# Altium footprint library PCB1.PcbLib: 28 footprints (part 1 of 2)
Each footprint in its own frame and in the unit in brackets; x right, y up, seen from the top. Pads: shape width x height; smd on the part's side, far side on the other; paste and mask are expansions set on the pad; w line width, h text height; cw(c..) or ccw(c..) is an arc to the next point about the centre after c.
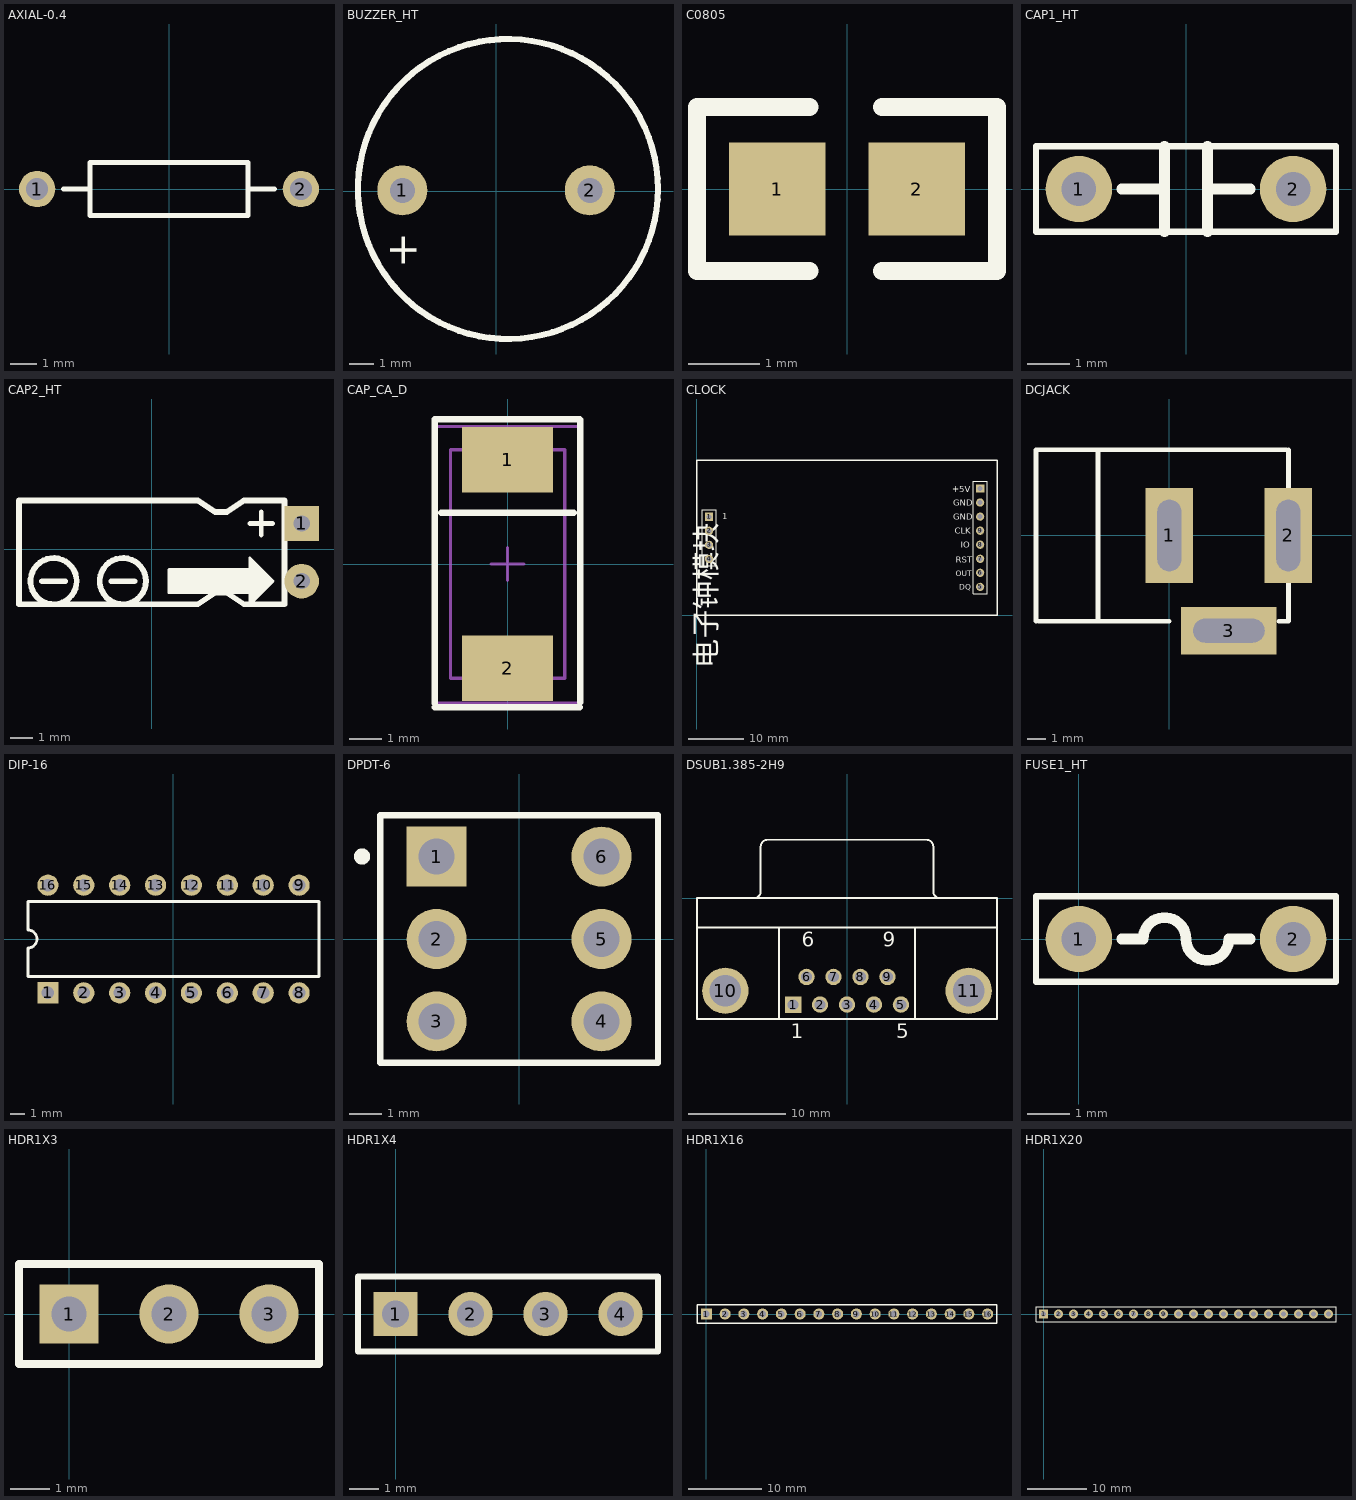
[diagram p0: the footprints below, top view; thin cyan lines are the x and y axes]

## AXIAL-0.4 [mm] "Resistor; 2 Leads"
height 2.032
pads (2):
  round 1.4 hole 0.85: 1(-5.08,0) 2(5.08,0)
Top Overlay:
  lines w0.2: -4.064,0 -3.048,0 ; 3.048,0 4.064,0 ; -3.048,-1.016 3.048,-1.016 3.048,1.016 -3.048,1.016 -3.048,-1.016

## BUZZER_HT [mil]
pads (2):
  round 80 hole 40: 1(-150.63,1.69) 2(149.37,1.69)
Top Overlay:
  circle w10: c18.54,3.94 r240
  text "+" at -170,-65 h50

## C0805 [mm]
pads (2):
  rect 1.35x1.3 smd: 1(-0.975,0) 2(0.975,0)
Top Overlay:
  lines w0.254: -0.523,-1.15 -2.1,-1.15 -2.1,1.15 -0.523,1.15 ; 0.494,-1.15 2.1,-1.15 2.1,1.15 0.494,1.15

## CAP1_HT [mil]
pads (2):
  round 62 hole 32: 1(-100,0) 2(100,0)
Top Overlay:
  lines w6: -140,-40 -140,40 140,40 140,-40 -140,-40
  lines w10: -60,0 -20,0 ; -20,-40 -20,40 ; 20,-40 20,40 ; 20,0 60,0

## CAP2_HT [mil]
pads (2):
  rect 60x60 hole 28: 1(260,45)
  round 60 hole 28: 2(260,-55)
Top Overlay:
  circle w10: c-170,-55 r40
  circle w10: c-50,-55 r40.01
  region: 29.94,-35 29.94,-75 190.94,-75 190.94,-35
  region: 182.94,-46.15 182.94,-65 201.09,-65 201.09,-46.15
  region: 190.94,-48.85 190.94,-61 203.79,-61 203.79,-48.85
  region: 169.94,-32.31 169.94,-37 187.25,-37 187.25,-32.31
  region: 169.94,-29.31 169.94,-33 184.25,-33 184.25,-29.31
  region: 169.94,-26.24 169.94,-30 181.18,-30 181.18,-26.24
  region: 169.92,-23.45 169.92,-27.84 178.53,-27.84 178.53,-23.45
  region: 169.92,-20.76 169.92,-24.84 175.84,-24.84 175.84,-20.76
  region: 190.94,-43.09 190.94,-48.85 198.03,-48.85 198.03,-43.09
  region: 190.92,-40.46 190.92,-43.09 195.38,-43.09 195.38,-40.46
  region: 190.94,-38.8 190.94,-40.62 193.58,-40.62 193.58,-38.8
  region: 169.94,-72.83 169.94,-80.34 184.42,-80.34 184.42,-72.83
  region: 169.94,-80 169.94,-86.15 178.79,-86.15 178.79,-80
  region: 169.94,-84.83 169.94,-94.83 175.94,-94.83 175.94,-84.83
  region: 178.79,-80 178.79,-83.08 181.86,-83.08 181.86,-80
  region: 184.41,-72.84 184.41,-78.03 186.72,-78.03 186.72,-72.84
  region: 190.94,-61 190.94,-68.74 196.2,-68.74 196.2,-61
  region: 190.94,-68.57 190.94,-71.64 193.13,-71.64 193.13,-68.57
  lines w5: 170,-75 30,-75 30,-35 170,-35 ; 197,-55 210,-55 ; 210,-55 170,-15 170,-95 210,-55
  lines w8: 170,45 210,45 ; 190,25 190,65
  lines w10: -190,-55 -150,-55 ; -70,-55 -30,-55 ; -230,-95 80,-95 110,-75 130,-75 160,-95 230,-95 230,85 160,85 130,65 110,65 80,85 -230,85 -230,-95

## CAP_CA_D [mm]
height 1.75
pads (2):
  rect 2.8x2 smd: 1(0,3.2) 2(0,-3.2)
Top Overlay:
  lines w0.2: -2.235,-4.394 2.21,-4.394 ; -2.235,-4.267 -2.235,4.445 2.21,4.445 ; -2.032,1.575 2.032,1.575 ; 2.235,-4.242 2.235,4.42
Mechanical 13:
  lines w0.1: -2.21,-4.267 2.261,-4.267 2.261,4.216 -2.21,4.216 -2.21,-4.267
Mechanical 15:
  lines w0.1: -0.5,0 0.5,0 ; 0,-0.5 0,0.5 ; -1.75,-3.5 1.75,-3.5 1.75,3.5 -1.75,3.5 -1.75,-3.5

## CLOCK [mm]
pads (12):
  rect 1.5x1.5 hole 0.9: 1(2.251,17.78) 12(51.251,22.89)
  round 1.5 hole 0.9: 2(2.251,15.24) 3(2.251,12.7) 4(2.251,10.16) 5(51.251,5.11) 6(51.251,7.65) 7(51.251,10.19) 8(51.251,12.73) 9(51.251,15.27) 10(51.251,17.81) 11(51.251,20.35)
Top Overlay:
  lines w0.2: 0.981,8.89 3.521,8.89 3.521,19.05 0.981,19.05 0.981,8.89 ; 49.981,3.84 49.981,24.16 52.521,24.16 52.521,3.84 49.981,3.84
  lines w0.254: 0.076,0 0.076,28.016 54.305,28.016 54.305,0 0.076,0
  text "电子钟模块" at 3.556,-9.525 h3.81
  text "DQ" at 47.498,4.597 h1.02
  text "GND" at 46.431,19.812 h1.14
  text "GND" at 46.431,17.272 h1.14
  text "+5V" at 46.177,22.225 h1.14
  text "CLK" at 46.685,14.732 h1.14
  text "IO" at 47.777,12.167 h1.14
  text "RST" at 46.838,9.5 h1.14
  text "OUT" at 46.838,7.061 h1.02
  text "1" at 4.623,17.323 h1.14

## DCJACK [mm]
pads (3):
  rect 2.54x5.08 hole 1.27 slot 3.81 at 90 deg: 1(0,0) 2(6.35,0)
  rect 5.08x2.54 hole 1.27 slot 3.81 at 0 deg: 3(3.175,-5.08)
Top Overlay:
  lines w0.254: -7.112,-4.572 -7.112,4.572 6.223,4.572 ; -6.985,-4.572 0,-4.572 ; -3.81,-4.572 -3.81,4.572 ; 5.842,-4.572 6.35,-4.572 6.35,-2.54 ; 6.35,2.54 6.35,4.572

## DIP-16 [mm]
pads (16):
  rect 1.5x1.5 hole 0.9: 1(-8.89,-3.81)
  round 1.5 hole 0.9: 2(-6.35,-3.81) 3(-3.81,-3.81) 4(-1.27,-3.81) 5(1.27,-3.81) 6(3.81,-3.81) 7(6.35,-3.81) 8(8.89,-3.81) 9(8.89,3.81) 10(6.35,3.81) 11(3.81,3.81) 12(1.27,3.81) 13(-1.27,3.81) 14(-3.81,3.81) 15(-6.35,3.81) 16(-8.89,3.81)
Top Overlay:
  lines w0.2: -10.3,-2.65 10.3,-2.65 10.3,2.65 -10.3,2.65 -10.3,0.635 cw(c-10.3,0) -10.3,-0.635 -10.3,-2.65

## DPDT-6 [mm] "Double-Pole, Double-Throw Switch; 6 Leads"
height 1.75
pads (6):
  rect 1.85x1.85 hole 1.1: 1(-2.54,2.54)
  round 1.85 hole 1.1: 2(-2.54,0) 3(-2.54,-2.54) 4(2.54,-2.54) 5(2.54,0) 6(2.54,2.54)
Top Overlay:
  circle w0.25: c-4.836,2.541 r0.125
  lines w0.2: -4.28,-3.81 -4.28,3.81 4.28,3.81 4.28,-3.81 -4.28,-3.81

## DSUB1.385-2H9 [mm] "Connector; D Subminiature; 9 Position; Right Angle; Pitch 1.385 mm"
height 12.75
pads (11):
  rect 1.69x1.69 hole 1.09: 1(-5.54,-10.92)
  round 1.69 hole 1.09: 2(-2.77,-10.92) 3(0,-10.92) 4(2.77,-10.92) 5(5.54,-10.92) 6(-4.155,-8.08) 7(-1.385,-8.08) 8(1.385,-8.08) 9(4.155,-8.08)
  round 4.76 hole 3.26: 10(-12.495,-9.5) 11(12.495,-9.5)
Top Overlay:
  lines w0.2: -15.4,-3 15.4,-3 ; -9.56,0.005 ccw(c-9.56,0.7) -8.865,0.7 -8.865,5.3 ; -8.86,5.305 cw(c-8.165,5.305) -8.165,6 8.165,6 cw(c8.165,5.305) 8.86,5.305 ; -7,-12.4 -7,-3 ; 7,-12.4 7,-3 ; 8.865,5.3 8.865,0.7 ccw(c9.56,0.7) 9.56,0.005 ; -15.4,-12.4 -15.4,0 15.4,0 15.4,-12.4 -15.4,-12.4
  text "1" at -5.79,-14.375 h1.5
  text "5" at 5.04,-14.375 h1.5
  text "9" at 3.655,-4.975 h1.5
  text "6" at -4.655,-4.975 h1.5

## FUSE1_HT [mil]
height 220.08
pads (2):
  round 62 hole 32: 1(0,0) 2(200,0)
Top Overlay:
  lines w6: -40,-40 240,-40 240,40 -40,40 -40,-40
  lines w10: 40,0 60,0 cw(c80,0) 100,0 ccw(c120,0) 140,0 160,0

## HDR1X3 [mm] "Connector; Header; 3 Position"
pads (3):
  rect 1.5x1.5 hole 0.9: 1(0,0)
  round 1.5 hole 0.9: 2(2.54,0) 3(5.08,0)
Top Overlay:
  lines w0.2: -1.27,-1.27 6.35,-1.27 6.35,1.27 -1.27,1.27 -1.27,-1.27

## HDR1X4 [mm] "Connector; Header; 4 Position"
pads (4):
  rect 1.5x1.5 hole 0.9: 1(0,0)
  round 1.5 hole 0.9: 2(2.54,0) 3(5.08,0) 4(7.62,0)
Top Overlay:
  lines w0.2: -1.27,-1.27 8.89,-1.27 8.89,1.27 -1.27,1.27 -1.27,-1.27

## HDR1X16 [mm] "Connector; Header; 16 Position"
pads (16):
  rect 1.5x1.5 hole 0.9: 1(0,0)
  round 1.5 hole 0.9: 2(2.54,0) 3(5.08,0) 4(7.62,0) 5(10.16,0) 6(12.7,0) 7(15.24,0) 8(17.78,0) 9(20.32,0) 10(22.86,0) 11(25.4,0) 12(27.94,0) 13(30.48,0) 14(33.02,0) 15(35.56,0) 16(38.1,0)
Top Overlay:
  lines w0.2: -1.27,-1.27 -1.27,1.27 0.635,1.27 39.37,1.27 39.37,-1.27 -1.27,-1.27

## HDR1X20 [mm] "Connector; Header; 20 Position"
pads (20):
  rect 1.5x1.5 hole 0.9: 1(0,0)
  round 1.5 hole 0.9: 2(2.54,0) 3(5.08,0) 4(7.62,0) 5(10.16,0) 6(12.7,0) 7(15.24,0) 8(17.78,0) 9(20.32,0) 10(22.86,0) 11(25.4,0) 12(27.94,0) 13(30.48,0) 14(33.02,0) 15(35.56,0) 16(38.1,0) 17(40.64,0) 18(43.18,0) 19(45.72,0) 20(48.26,0)
Top Overlay:
  lines w0.2: -1.27,-1.27 -1.27,1.27 0.635,1.27 49.53,1.27 49.53,-1.27 -1.27,-1.27